# EAGLE library part STRAP-1X8 (library trafo-signal)
LINE STRAP JUMPERS
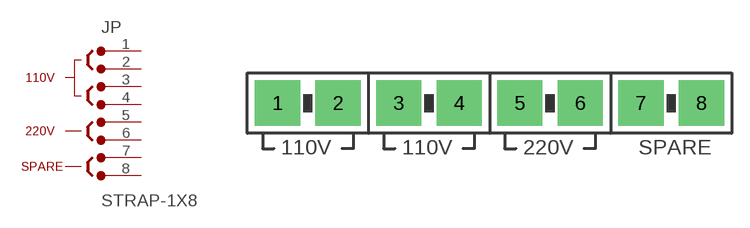
[diagram p11: symbol with the pads of STRAP-1X8; footprint STRAP-1X8]

Designator prefix JP

## STRAP-1X8  [STRAP-1X8]
1  1  pas
2  2  pas
3  3  pas
4  4  pas
5  5  pas
6  6  pas
7  7  pas
8  8  pas

## Footprint STRAP-1X8 (pad centres in mm)
110/220V STRAP JUMPERS Accepts Mill-Max 0312-0-15-XX-34-XX-10-0 pin recepticals Use Harwin D3086-98 shorting block (5.08 mm pitch)
drill 2.21 pad 3.81 square: 1 -14.605,-0.635; 2 -9.525,-0.635; 3 -4.445,-0.635; 4 0.635,-0.635; 5 5.715,-0.635; 6 10.795,-0.635; 7 15.875,-0.635; 8 20.955,-0.635